# Altium footprint library SSOP-B40.PcbLib: 1 footprints
Each footprint in its own frame and in the unit in brackets; x right, y up, seen from the top. Pads: shape width x height; smd on the part's side, far side on the other; paste and mask are expansions set on the pad; w line width, h text height; cw(c..) or ccw(c..) is an arc to the next point about the centre after c.
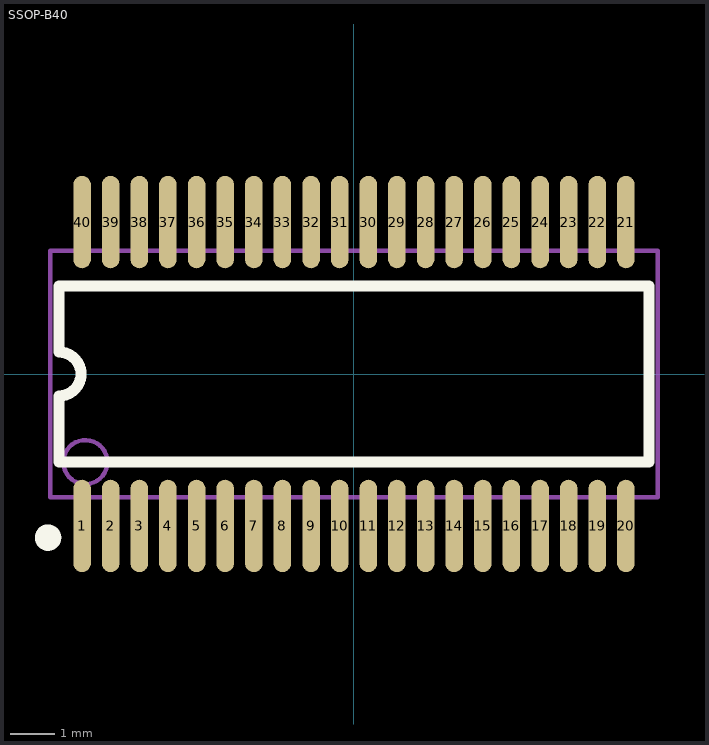
[diagram p0: the footprint, top view; thin cyan lines are the x and y axes]

## SSOP-B40 [mm]
pads (40):
  oval 0.4x2.1 smd mask+0.051: 1(-6.175,-3.45) 2(-5.525,-3.45) 3(-4.875,-3.45) 4(-4.225,-3.45) 5(-3.575,-3.45) 6(-2.925,-3.45) 7(-2.275,-3.45) 8(-1.625,-3.45) 9(-0.975,-3.45) 10(-0.325,-3.45) 11(0.325,-3.45) 12(0.975,-3.45) 13(1.625,-3.45) 14(2.275,-3.45) 15(2.925,-3.45) 16(3.575,-3.45) 17(4.225,-3.45) 18(4.875,-3.45) 19(5.525,-3.45) 20(6.175,-3.45) 21(6.175,3.45) 22(5.525,3.45) 23(4.875,3.45) 24(4.225,3.45) 25(3.575,3.45) 26(2.925,3.45) 27(2.275,3.45) 28(1.625,3.45) 29(0.975,3.45) 30(0.325,3.45) 31(-0.325,3.45) 32(-0.975,3.45) 33(-1.625,3.45) 34(-2.275,3.45) 35(-2.925,3.45) 36(-3.575,3.45) 37(-4.225,3.45) 38(-4.875,3.45) 39(-5.525,3.45) 40(-6.175,3.45)
Top Overlay:
  circle w0.3: c-6.947,-3.715 r0.15
  lines w0.254: -6.7,-2 -6.7,-0.5 ccw(c-6.7,0) -6.7,0.5 -6.7,2 6.7,2 6.7,-2 -6.7,-2
Mechanical 13:
  circle w0.1: c-6.1,-2 r0.5
  lines w0.1: -6.9,-2.8 6.9,-2.8 6.9,2.8 -6.9,2.8 -6.9,-2.8